# Altium footprint library Small Outline (~1.27mm Pitch) - 6to20 Leads.PcbLib: 80 footprints (part 5 of 5)
Each footprint in its own frame and in the unit in brackets; x right, y up, seen from the top. Pads: shape width x height; smd on the part's side, far side on the other; paste and mask are expansions set on the pad; w line width, h text height; cw(c..) or ccw(c..) is an arc to the next point about the centre after c.
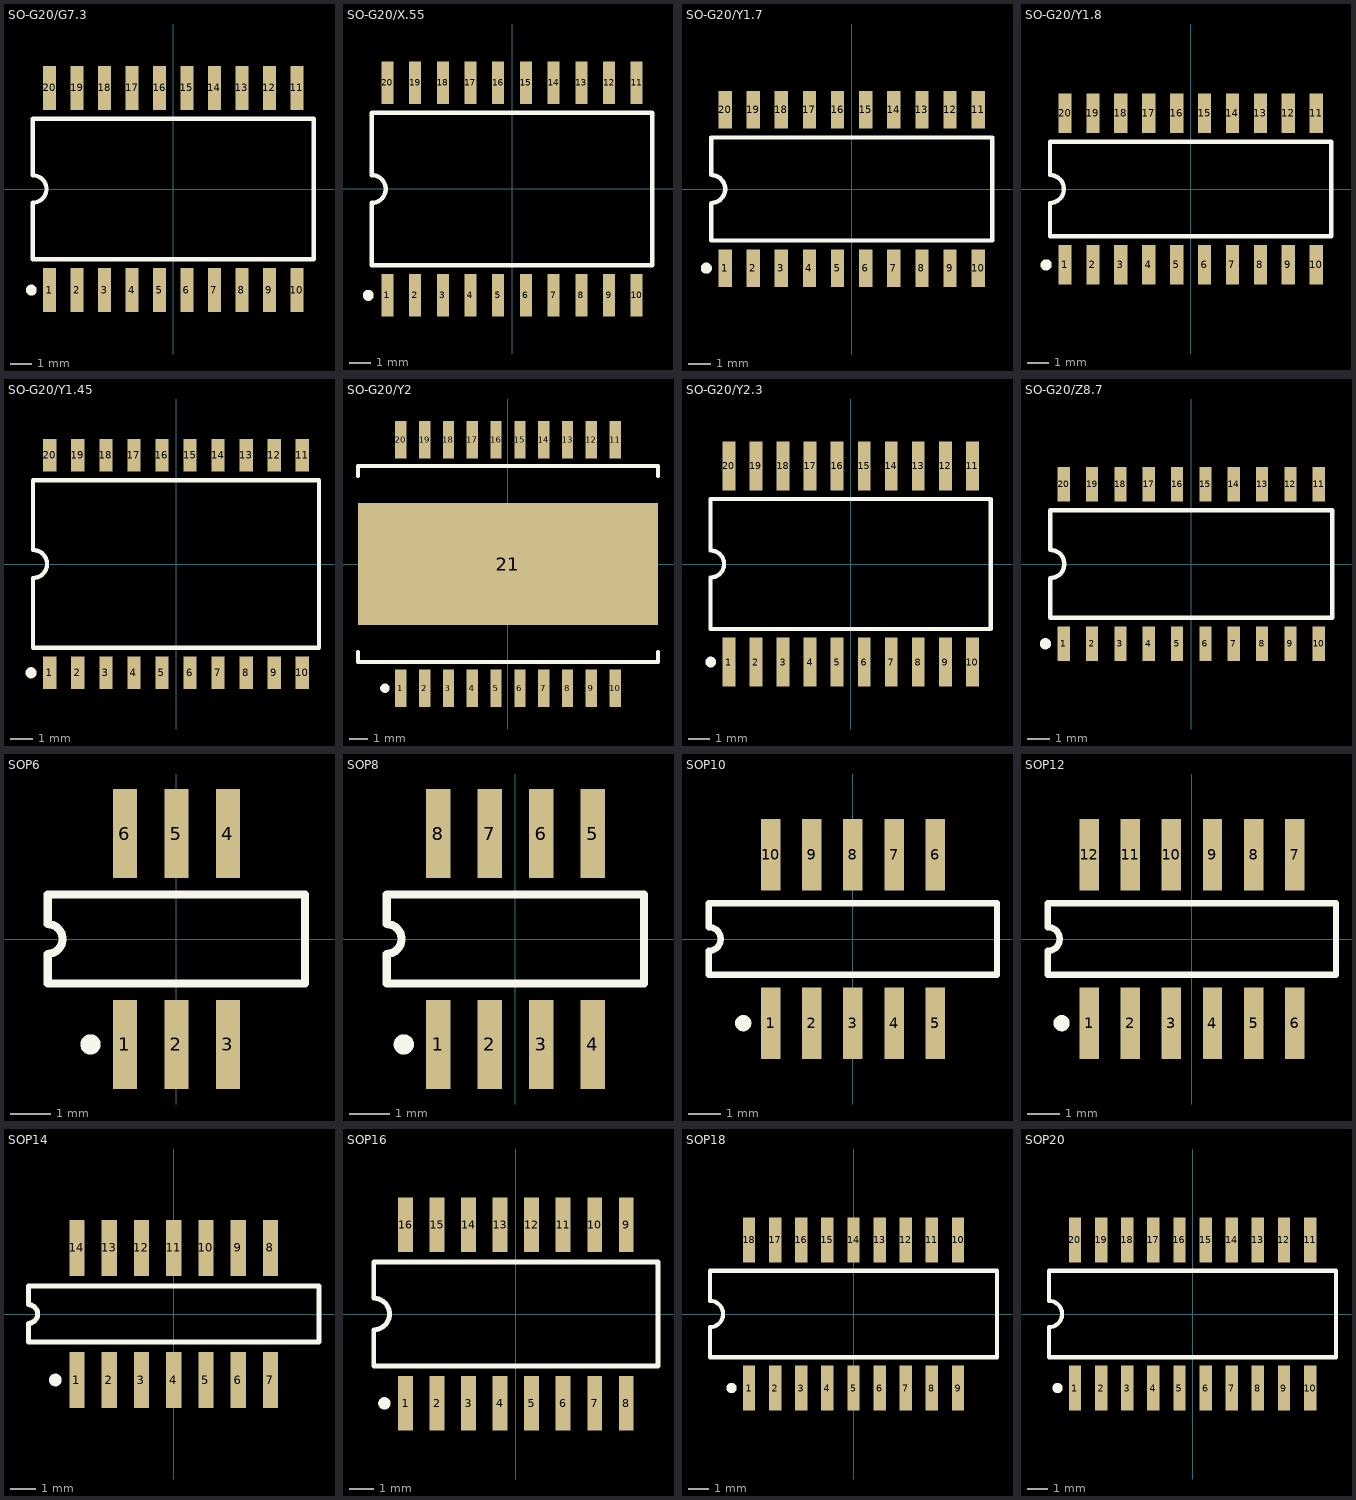
[diagram p4: the footprints below, top view; thin cyan lines are the x and y axes]

## SO-G20/G7.3 [mm] "Small Outline, Plastic; 20 Leads; Body Width 7.5 mm; Pitch 1.27 mm"
height 2.65
pads (20):
  rect 0.6x2.05 smd: 1(-5.715,-4.675) 2(-4.445,-4.675) 3(-3.175,-4.675) 4(-1.905,-4.675) 5(-0.635,-4.675) 6(0.635,-4.675) 7(1.905,-4.675) 8(3.175,-4.675) 9(4.445,-4.675) 10(5.715,-4.675) 11(5.715,4.675) 12(4.445,4.675) 13(3.175,4.675) 14(1.905,4.675) 15(0.635,4.675) 16(-0.635,4.675) 17(-1.905,4.675) 18(-3.175,4.675) 19(-4.445,4.675) 20(-5.715,4.675)
Top Overlay:
  circle w0.25: c-6.565,-4.675 r0.125
  lines w0.2: -6.5,-3.25 -6.5,-0.635 ccw(c-6.5,0) -6.5,0.635 -6.5,3.25 6.5,3.25 6.5,-3.25 -6.5,-3.25

## SO-G20/X.55 [mm] "Small Outline; 20 Leads; Body Width 7.5 mm; Pitch 1.27 mm"
height 2.34
pads (20):
  rect 0.55x1.95 smd: 1(-5.715,-4.875) 2(-4.445,-4.875) 3(-3.175,-4.875) 4(-1.905,-4.875) 5(-0.635,-4.875) 6(0.635,-4.875) 7(1.905,-4.875) 8(3.175,-4.875) 9(4.445,-4.875) 10(5.715,-4.875) 11(5.715,4.875) 12(4.445,4.875) 13(3.175,4.875) 14(1.905,4.875) 15(0.635,4.875) 16(-0.635,4.875) 17(-1.905,4.875) 18(-3.175,4.875) 19(-4.445,4.875) 20(-5.715,4.875)
Top Overlay:
  circle w0.25: c-6.59,-4.875 r0.125
  lines w0.2: -6.425,-3.5 -6.425,-0.635 ccw(c-6.425,0) -6.425,0.635 -6.425,3.5 6.425,3.5 6.425,-3.5 -6.425,-3.5

## SO-G20/Y1.7 [mm] "Small Outline; 20 Leads; Body Width 5.3 mm; Pitch 1.27 mm"
height 2.1
pads (20):
  rect 0.6x1.7 smd: 1(-5.715,-3.575) 2(-4.445,-3.575) 3(-3.175,-3.575) 4(-1.905,-3.575) 5(-0.635,-3.575) 6(0.635,-3.575) 7(1.905,-3.575) 8(3.175,-3.575) 9(4.445,-3.575) 10(5.715,-3.575) 11(5.715,3.575) 12(4.445,3.575) 13(3.175,3.575) 14(1.905,3.575) 15(0.635,3.575) 16(-0.635,3.575) 17(-1.905,3.575) 18(-3.175,3.575) 19(-4.445,3.575) 20(-5.715,3.575)
Top Overlay:
  circle w0.25: c-6.565,-3.575 r0.125
  lines w0.2: -6.35,-2.325 6.35,-2.325 6.35,2.325 -6.35,2.325 -6.35,0.635 cw(c-6.35,0) -6.35,-0.635 -6.35,-2.325

## SO-G20/Y1.8 [mm] "Small Outline; 20 Leads; Body Width 5.5mm; Pitch 1.27mm"
height 2.05
pads (20):
  rect 0.6x1.8 smd: 1(-5.715,-3.45) 2(-4.445,-3.45) 3(-3.175,-3.45) 4(-1.905,-3.45) 5(-0.635,-3.45) 6(0.635,-3.45) 7(1.905,-3.45) 8(3.175,-3.45) 9(4.445,-3.45) 10(5.715,-3.45) 11(5.715,3.45) 12(4.445,3.45) 13(3.175,3.45) 14(1.905,3.45) 15(0.635,3.45) 16(-0.635,3.45) 17(-1.905,3.45) 18(-3.175,3.45) 19(-4.445,3.45) 20(-5.715,3.45)
Top Overlay:
  circle w0.25: c-6.575,-3.45 r0.125
  lines w0.2: -6.4,-2.15 6.4,-2.15 6.4,2.15 -6.4,2.15 -6.4,0.635 cw(c-6.4,0) -6.4,-0.635 -6.4,-2.15

## SO-G20/Y1.45 [mm] "Small Outline; 20 Leads; Body Width 7.5 mm; Pitch 1.27 mm"
height 2.65
pads (20):
  rect 0.6x1.45 smd: 1(-5.715,-4.925) 2(-4.445,-4.925) 3(-3.175,-4.925) 4(-1.905,-4.925) 5(-0.635,-4.925) 6(0.635,-4.925) 7(1.905,-4.925) 8(3.175,-4.925) 9(4.445,-4.925) 10(5.715,-4.925) 11(5.715,4.925) 12(4.445,4.925) 13(3.175,4.925) 14(1.905,4.925) 15(0.635,4.925) 16(-0.635,4.925) 17(-1.905,4.925) 18(-3.175,4.925) 19(-4.445,4.925) 20(-5.715,4.925)
Top Overlay:
  circle w0.25: c-6.565,-4.925 r0.125
  lines w0.2: -6.475,-3.8 6.475,-3.8 6.475,3.8 -6.475,3.8 -6.475,0.635 cw(c-6.475,0) -6.475,-0.635 -6.475,-3.8

## SO-G20/Y2 [mm] "Small Outline; 20 Leads; Body Width 11 mm; Pitch 1.27 mm"
height 3.6
pads (21):
  rect 0.6x2 smd: 1(-5.715,-6.625) 2(-4.445,-6.625) 3(-3.175,-6.625) 4(-1.905,-6.625) 5(-0.635,-6.625) 6(0.635,-6.625) 7(1.905,-6.625) 8(3.175,-6.625) 9(4.445,-6.625) 10(5.715,-6.625) 11(5.715,6.625) 12(4.445,6.625) 13(3.175,6.625) 14(1.905,6.625) 15(0.635,6.625) 16(-0.635,6.625) 17(-1.905,6.625) 18(-3.175,6.625) 19(-4.445,6.625) 20(-5.715,6.625)
  rect 16x6.5 smd: 21(0,0)
Top Overlay:
  circle w0.25: c-6.565,-6.625 r0.125
  lines w0.2: -8,-4.7 -8,-5.225 8,-5.225 8,-4.7 ; -8,4.7 -8,5.225 8,5.225 8,4.7

## SO-G20/Y2.3 [mm] "Small Outline; 20 Leads; Body Width 7.5 mm; Pitch 1.27 mm"
height 2.74
pads (20):
  rect 0.6x2.3 smd: 1(-5.715,-4.6) 2(-4.445,-4.6) 3(-3.175,-4.6) 4(-1.905,-4.6) 5(-0.635,-4.6) 6(0.635,-4.6) 7(1.905,-4.6) 8(3.175,-4.6) 9(4.445,-4.6) 10(5.715,-4.6) 11(5.715,4.6) 12(4.445,4.6) 13(3.175,4.6) 14(1.905,4.6) 15(0.635,4.6) 16(-0.635,4.6) 17(-1.905,4.6) 18(-3.175,4.6) 19(-4.445,4.6) 20(-5.715,4.6)
Top Overlay:
  circle w0.25: c-6.565,-4.6 r0.125
  lines w0.2: -6.575,-3.05 -6.575,-0.635 ccw(c-6.575,0) -6.575,0.635 -6.575,3.05 6.575,3.05 6.575,-3.05 -6.575,-3.05

## SO-G20/Z8.7 [mm] "Small Outline; 20 Leads; Body Width 5.3 mm; Pitch 1.27 mm"
height 1.96
pads (20):
  rect 0.55x1.55 smd: 1(-5.715,-3.575) 2(-4.445,-3.575) 3(-3.175,-3.575) 4(-1.905,-3.575) 5(-0.635,-3.575) 6(0.635,-3.575) 7(1.905,-3.575) 8(3.175,-3.575) 9(4.445,-3.575) 10(5.715,-3.575) 11(5.715,3.575) 12(4.445,3.575) 13(3.175,3.575) 14(1.905,3.575) 15(0.635,3.575) 16(-0.635,3.575) 17(-1.905,3.575) 18(-3.175,3.575) 19(-4.445,3.575) 20(-5.715,3.575)
Top Overlay:
  circle w0.25: c-6.54,-3.575 r0.125
  lines w0.2: -6.325,-2.4 6.325,-2.4 6.325,2.4 -6.325,2.4 -6.325,0.635 cw(c-6.325,0) -6.325,-0.635 -6.325,-2.4

## SOP6 [mm] "Small Outline; 6 Leads; Body Width 4.3 mm; Pitch 1.27 mm"
height 1.5
pads (6):
  rect 0.6x2.2 smd: 1(-1.27,-2.6) 2(0,-2.6) 3(1.27,-2.6) 4(1.27,2.6) 5(0,2.6) 6(-1.27,2.6)
Top Overlay:
  circle w0.25: c-2.12,-2.6 r0.125
  lines w0.2: -3.175,-1.1 3.175,-1.1 3.175,1.1 -3.175,1.1 -3.175,0.367 cw(c-3.175,0) -3.175,-0.367 -3.175,-1.1

## SOP8 [mm] "Small Outline; 8 Leads; Body Width 4.3 mm; Pitch 1.27 mm"
height 1.5
pads (8):
  rect 0.6x2.2 smd: 1(-1.905,-2.6) 2(-0.635,-2.6) 3(0.635,-2.6) 4(1.905,-2.6) 5(1.905,2.6) 6(0.635,2.6) 7(-0.635,2.6) 8(-1.905,2.6)
Top Overlay:
  circle w0.25: c-2.755,-2.6 r0.125
  lines w0.2: -3.175,-1.1 3.175,-1.1 3.175,1.1 -3.175,1.1 -3.175,0.367 cw(c-3.175,0) -3.175,-0.367 -3.175,-1.1

## SOP10 [mm] "Small Outline; 10 Leads; Body Width 4.3 mm; Pitch 1.27 mm"
height 1.5
pads (10):
  rect 0.6x2.2 smd: 1(-2.54,-2.6) 2(-1.27,-2.6) 3(0,-2.6) 4(1.27,-2.6) 5(2.54,-2.6) 6(2.54,2.6) 7(1.27,2.6) 8(0,2.6) 9(-1.27,2.6) 10(-2.54,2.6)
Top Overlay:
  circle w0.25: c-3.39,-2.6 r0.125
  lines w0.2: -4.45,-1.1 4.45,-1.1 4.45,1.1 -4.45,1.1 -4.45,0.367 cw(c-4.45,0) -4.45,-0.367 -4.45,-1.1

## SOP12 [mm] "Small Outline; 12 Leads; Body Width 4.3 mm; Pitch 1.27 mm"
height 1.5
pads (12):
  rect 0.6x2.2 smd: 1(-3.175,-2.6) 2(-1.905,-2.6) 3(-0.635,-2.6) 4(0.635,-2.6) 5(1.905,-2.6) 6(3.175,-2.6) 7(3.175,2.6) 8(1.905,2.6) 9(0.635,2.6) 10(-0.635,2.6) 11(-1.905,2.6) 12(-3.175,2.6)
Top Overlay:
  circle w0.25: c-4.025,-2.6 r0.125
  lines w0.2: -4.45,-1.1 -4.45,-0.367 ccw(c-4.45,0) -4.45,0.367 -4.45,1.1 4.45,1.1 4.45,-1.1 -4.45,-1.1

## SOP14 [mm] "Small Outline; 14 Leads; Body Width 4.3 mm; Pitch 1.27 mm"
height 1.5
pads (14):
  rect 0.6x2.2 smd: 1(-3.81,-2.6) 2(-2.54,-2.6) 3(-1.27,-2.6) 4(0,-2.6) 5(1.27,-2.6) 6(2.54,-2.6) 7(3.81,-2.6) 8(3.81,2.6) 9(2.54,2.6) 10(1.27,2.6) 11(0,2.6) 12(-1.27,2.6) 13(-2.54,2.6) 14(-3.81,2.6)
Top Overlay:
  circle w0.25: c-4.66,-2.6 r0.125
  lines w0.2: -5.725,-1.1 5.725,-1.1 5.725,1.1 -5.725,1.1 -5.725,0.367 cw(c-5.725,0) -5.725,-0.367 -5.725,-1.1

## SOP16 [mm] "Small Outline; 16 Leads; Body Width 5.6 mm; Pitch 1.27 mm"
height 2
pads (16):
  rect 0.6x2.2 smd: 1(-4.445,-3.6) 2(-3.175,-3.6) 3(-1.905,-3.6) 4(-0.635,-3.6) 5(0.635,-3.6) 6(1.905,-3.6) 7(3.175,-3.6) 8(4.445,-3.6) 9(4.445,3.6) 10(3.175,3.6) 11(1.905,3.6) 12(0.635,3.6) 13(-0.635,3.6) 14(-1.905,3.6) 15(-3.175,3.6) 16(-4.445,3.6)
Top Overlay:
  circle w0.25: c-5.295,-3.6 r0.125
  lines w0.2: -5.725,-2.1 -5.725,-0.635 ccw(c-5.725,0) -5.725,0.635 -5.725,2.1 5.725,2.1 5.725,-2.1 -5.725,-2.1

## SOP18 [mm] "Small Outline; 18 Leads; Body Width 5.6 mm; Pitch 1.27 mm"
height 2
pads (18):
  rect 0.6x2.2 smd: 1(-5.08,-3.6) 2(-3.81,-3.6) 3(-2.54,-3.6) 4(-1.27,-3.6) 5(0,-3.6) 6(1.27,-3.6) 7(2.54,-3.6) 8(3.81,-3.6) 9(5.08,-3.6) 10(5.08,3.6) 11(3.81,3.6) 12(2.54,3.6) 13(1.27,3.6) 14(0,3.6) 15(-1.27,3.6) 16(-2.54,3.6) 17(-3.81,3.6) 18(-5.08,3.6)
Top Overlay:
  circle w0.25: c-5.93,-3.6 r0.125
  lines w0.2: -6.975,-2.1 -6.975,-0.635 ccw(c-6.975,0) -6.975,0.635 -6.975,2.1 6.975,2.1 6.975,-2.1 -6.975,-2.1

## SOP20 [mm] "Small Outline; 20 Leads; Body Width 5.6 mm; Pitch 1.27 mm"
height 2
pads (20):
  rect 0.6x2.2 smd: 1(-5.715,-3.6) 2(-4.445,-3.6) 3(-3.175,-3.6) 4(-1.905,-3.6) 5(-0.635,-3.6) 6(0.635,-3.6) 7(1.905,-3.6) 8(3.175,-3.6) 9(4.445,-3.6) 10(5.715,-3.6) 11(5.715,3.6) 12(4.445,3.6) 13(3.175,3.6) 14(1.905,3.6) 15(0.635,3.6) 16(-0.635,3.6) 17(-1.905,3.6) 18(-3.175,3.6) 19(-4.445,3.6) 20(-5.715,3.6)
Top Overlay:
  circle w0.25: c-6.565,-3.6 r0.125
  lines w0.2: -6.975,-2.1 6.975,-2.1 6.975,2.1 -6.975,2.1 -6.975,0.635 cw(c-6.975,0) -6.975,-0.635 -6.975,-2.1